# EAGLE library part CON44_BOTTOM (library JAMMA)
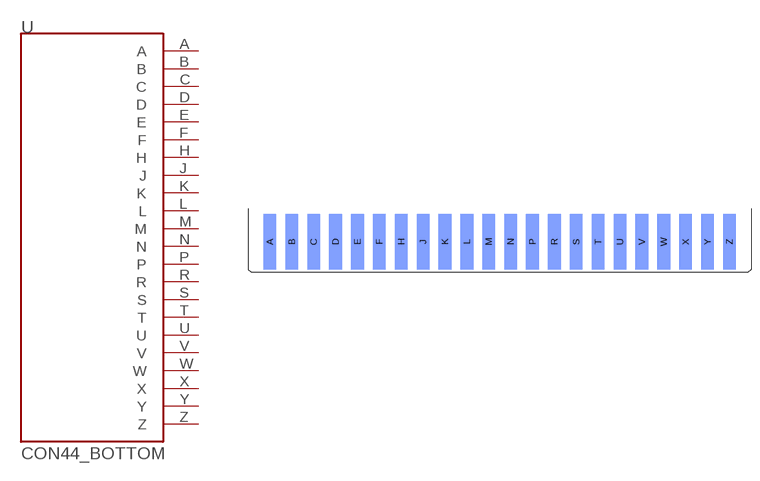
[diagram p2: symbol with the pads of CON44_BOTTOM; footprint CON44_BOTTOM]

Designator prefix -

## CON44_BOTTOM  [CON44_BOTTOM]
A  A  out
B  B  out
C  C  out
D  D  out
E  E  out
F  F  out
H  H  in
J  J  in
K  K  in
L  L  in
M  M  in
N  N  in
P  P  in
R  R  in
S  S  in
T  T  in
U  U  in
V  V  in
W  W  in
X  X  in
Y  Y  in
Z  Z  in

## Footprint CON44_BOTTOM (pad centres in mm)
smd 2.3 x 10 bottom: A -43.6,1.27; B -39.64,1.27; C -35.68,1.27; D -31.72,1.27; E -27.76,1.27; F -23.8,1.27; H -19.84,1.27; J -15.88,1.27; K -11.92,1.27; L -7.96,1.27; M -4,1.27; N -0.04,1.27; P 3.92,1.27; R 7.88,1.27; S 11.84,1.27; T 15.8,1.27; U 19.76,1.27; V 23.72,1.27; W 27.68,1.27; X 31.64,1.27; Y 35.6,1.27; Z 39.56,1.27